# Altium footprint library eth_bridge_v2_pcb.PcbLib: 33 footprints (part 2 of 3)
Each footprint in its own frame and in the unit in brackets; x right, y up, seen from the top. Pads: shape width x height; smd on the part's side, far side on the other; paste and mask are expansions set on the pad; w line width, h text height; cw(c..) or ccw(c..) is an arc to the next point about the centre after c.
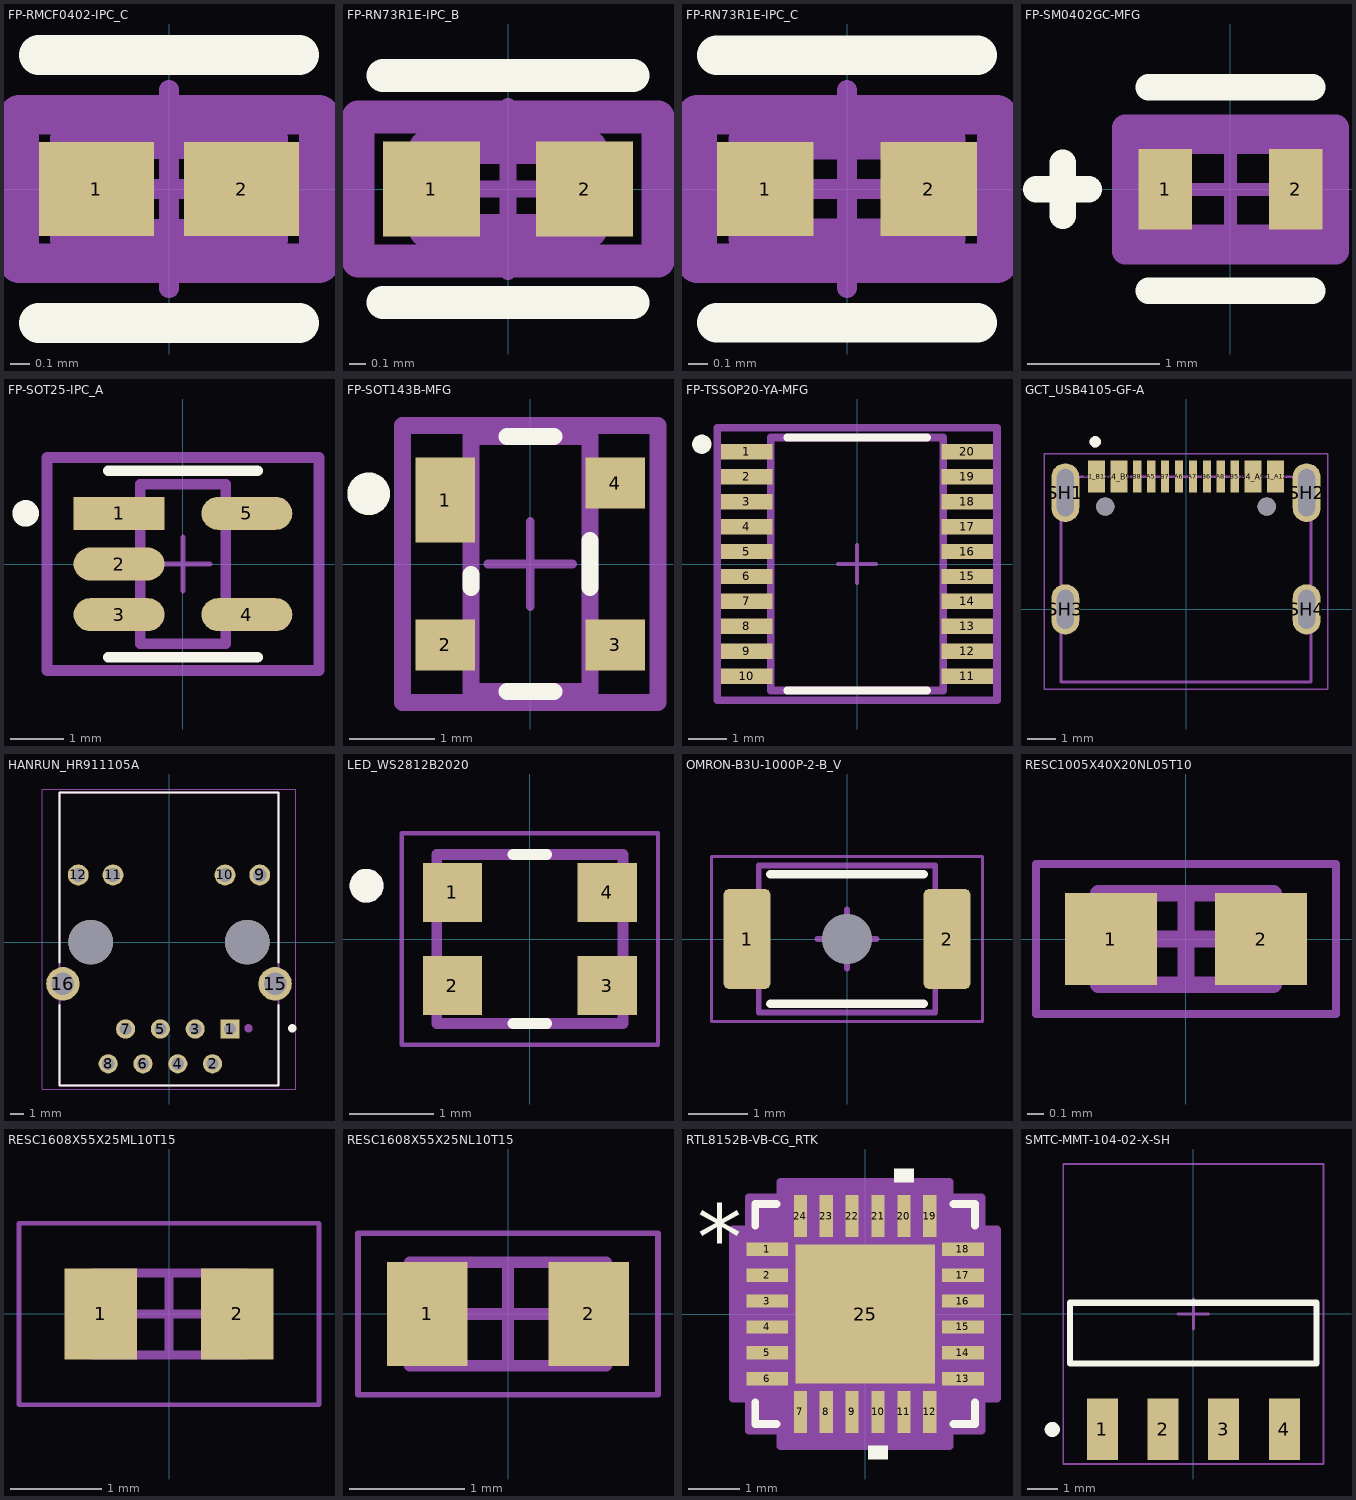
[diagram p1: the footprints below, top view; thin cyan lines are the x and y axes]

## FP-RMCF0402-IPC_C [mm]
pads (2):
  rect 0.581x0.472 smd paste+0 mask+0: 1(-0.366,0) 2(0.366,0)
Top Overlay:
  lines w0.2: -0.656,-0.675 0.656,-0.675 ; -0.656,0.675 0.656,0.675
Top Assembly:
  lines w0.2: -0.756,-0.375 0.756,-0.375 0.756,0.375 -0.756,0.375 -0.756,-0.375
  text ".Designator" at 0,0.188 h1
Top 3D Body:
  lines w0.2: -0.5,-0.25 0.5,-0.25 0.5,0.25 -0.5,0.25 -0.5,-0.25
Top Courtyard:
  lines w0.2: -0.756,-0.375 0.756,-0.375 0.756,0.375 -0.756,0.375 -0.756,-0.375
Top Component Center:
  lines w0.1: -0.5,0 0.5,0 ; 0,-0.5 0,0.5
3D body "Res_Stackpole_Electronics_RMCF0402FT1K00_eec.STEP": height 0.25, standoff 0, extent -0.756,-0.375 0.756,0.375

## FP-RN73R1E-IPC_B [mm]
pads (2):
  rect 0.588x0.572 smd paste+0 mask+0: 1(-0.464,0) 2(0.464,0)
Top Overlay:
  lines w0.2: -0.758,-0.686 0.758,-0.686 ; -0.758,0.686 0.758,0.686
Top Assembly:
  lines w0.2: -0.908,-0.436 0.908,-0.436 0.908,0.436 -0.908,0.436 -0.908,-0.436
  text ".Designator" at 0,0.188 h1
Top 3D Body:
  lines w0.2: -0.5,-0.25 0.5,-0.25 0.5,0.25 -0.5,0.25 -0.5,-0.25
Top Courtyard:
  lines w0.2: -0.908,-0.436 0.908,-0.436 0.908,0.436 -0.908,0.436 -0.908,-0.436
Top Component Center:
  lines w0.1: -0.5,0 0.5,0 ; 0,-0.5 0,0.5
3D body "Res_KOA_Speer_RN73R1ETTP2520D25_eec.STEP": height 0.25, standoff 0, extent -0.908,-0.436 0.908,0.436

## FP-RN73R1E-IPC_C [mm]
pads (2):
  rect 0.488x0.472 smd paste+0 mask+0: 1(-0.414,0) 2(0.414,0)
Top Overlay:
  lines w0.2: -0.658,-0.675 0.658,-0.675 ; -0.658,0.675 0.658,0.675
Top Assembly:
  lines w0.2: -0.758,-0.375 0.758,-0.375 0.758,0.375 -0.758,0.375 -0.758,-0.375
  text ".Designator" at 0,0.188 h1
Top 3D Body:
  lines w0.2: -0.5,-0.25 0.5,-0.25 0.5,0.25 -0.5,0.25 -0.5,-0.25
Top Courtyard:
  lines w0.2: -0.758,-0.375 0.758,-0.375 0.758,0.375 -0.758,0.375 -0.758,-0.375
Top Component Center:
  lines w0.1: -0.5,0 0.5,0 ; 0,-0.5 0,0.5
3D body "Res_KOA_Speer_RN73R1ETTP2520D25_eec.STEP": height 0.25, standoff 0, extent -0.758,-0.375 0.758,0.375

## FP-SM0402GC-MFG [mil]
pads (2):
  rect 16x24 smd paste+0 mask+0: 1(-19.5,0) 2(19.5,0)
Top Overlay:
  lines w7.87: -58.07,0 -42.32,0 ; -50.1,-7.83 -50.1,7.91 ; -24.5,-30.3 24.5,-30.3 ; -24.5,30.51 24.5,30.51
Top Assembly:
  lines w7.87: -31.44,-18.44 -31.44,18.44 31.44,18.44 31.44,-18.44 -31.44,-18.44
  text ".Designator" at 0,0 h39.37
Top 3D Body:
  lines w7.87: -24.5,-14.5 -24.5,14.5 24.5,14.5 24.5,-14.5 -24.5,-14.5
Top Courtyard:
  lines w7.87: -31.44,-18.44 -31.44,18.44 31.44,18.44 31.44,-18.44 -31.44,-18.44
Top Component Center:
  lines w3.94: -19.68,0 19.68,0 ; 0,-19.68 0,19.68
3D body "Diode_Bivar_SM0402GC_eec.STEP": height 10, standoff 0, extent -31.44,-18.44 31.44,18.44

## FP-SOT25-IPC_A [mm]
pads (5):
  rect 1.707x0.616 smd paste+0 mask+0: 1(-1.201,0.95)
  rrect100% 1.707x0.616 smd paste+0 mask+0: 2(-1.201,0) 3(-1.201,-0.95) 4(1.201,-0.95) 5(1.201,0.95)
Top Overlay:
  circle w0.25: c-2.954,0.95 r0.125
  lines w0.2: -1.4,-1.75 1.4,-1.75 ; -1.4,1.75 1.4,1.75
Top Assembly:
  lines w0.2: -2.554,-2 -2.554,2 2.554,2 2.554,-2 -2.554,-2
  text ".Designator" at 0,0 h1
Top 3D Body:
  lines w0.2: -0.8,-1.5 -0.8,1.5 0.8,1.5 0.8,-1.5 -0.8,-1.5
Top Courtyard:
  lines w0.2: -2.554,-2 -2.554,2 2.554,2 2.554,-2 -2.554,-2
Top Component Center:
  lines w0.1: -0.5,0 0.5,0 ; 0,-0.5 0,0.5
3D body "IC_Diodes_Inc_AP2127K-3_3TRG1_eec.STEP": height 0.25, standoff 0, extent -2.554,-2 2.554,2

## FP-SOT143B-MFG [mm]
pads (4):
  rect 0.7x1 smd paste-1000 mask+0: 1(-1,0.75)
  rect 0.7x0.6 smd paste-1000 mask+0: 2(-1,-0.95) 3(1,-0.95) 4(1,0.95)
Top Overlay:
  circle w0.25: c-1.9,0.825 r0.125
  lines w0.2: -0.7,-0.275 -0.7,-0.125 ; -0.275,-1.5 0.275,-1.5 ; -0.275,1.5 0.275,1.5 ; 0.7,-0.275 0.7,0.275
Top Paste:
  rectangle: -1.3,0.3 -0.7,1.2
  rectangle: -1.3,-1.2 -0.7,-0.7
  rectangle: 0.7,-1.2 1.3,-0.7
  rectangle: 0.7,0.7 1.3,1.2
Top Assembly:
  lines w0.2: -1.5,-1.625 1.5,-1.625 1.5,1.625 -1.5,1.625 -1.5,-1.625
  text ".Designator" at 0,0.188 h1
Top 3D Body:
  lines w0.2: -0.7,-1.5 0.7,-1.5 0.7,1.5 -0.7,1.5 -0.7,-1.5
Top Courtyard:
  lines w0.2: -1.5,-1.625 1.5,-1.625 1.5,1.625 -1.5,1.625 -1.5,-1.625
Top Component Center:
  lines w0.1: -0.5,0 0.5,0 ; 0,-0.5 0,0.5
3D body "Trans_Nexperia_BCM62B_215_eec.STEP": height 0.25, standoff 0, extent -1.5,-1.625 1.5,1.625

## FP-TSSOP20-YA-MFG [mm]
pads (20):
  rect 1.35x0.4 smd paste+0 mask+0: 1(-2.875,2.925) 2(-2.875,2.275) 3(-2.875,1.625) 4(-2.875,0.975) 5(-2.875,0.325) 6(-2.875,-0.325) 7(-2.875,-0.975) 8(-2.875,-1.625) 9(-2.875,-2.275) 10(-2.875,-2.925) 11(2.875,-2.925) 12(2.875,-2.275) 13(2.875,-1.625) 14(2.875,-0.975) 15(2.875,-0.325) 16(2.875,0.325) 17(2.875,0.975) 18(2.875,1.625) 19(2.875,2.275) 20(2.875,2.925)
Top Overlay:
  circle w0.25: c-4.05,3.125 r0.125
  lines w0.2: -1.825,-3.3 1.825,-3.3 ; -1.825,3.3 1.825,3.3
Top Assembly:
  lines w0.2: -3.65,-3.55 -3.65,3.55 3.65,3.55 3.65,-3.55 -3.65,-3.55
  text ".Designator" at 0,0.188 h1
Top 3D Body:
  lines w0.2: -2.25,-3.3 -2.25,3.3 2.25,3.3 2.25,-3.3 -2.25,-3.3
Top Courtyard:
  lines w0.2: -3.65,-3.55 -3.65,3.55 3.65,3.55 3.65,-3.55 -3.65,-3.55
Top Component Center:
  lines w0.1: -0.5,0 0.5,0 ; 0,-0.5 0,0.5
3D body "IC_STMicroelectronics_STM32L010F4P6_eec.STEP": height 0.25, standoff 0, extent -3.65,-3.55 3.65,3.55

## GCT_USB4105-GF-A [mm]
height 3.31
pads (18):
  rect 0.6x1.15 smd mask+0.05: A1_B12(-3.2,4.755) A4_B9(-2.4,4.755) B1_A12(3.2,4.755) B4_A9(2.4,4.755)
  rect 0.3x1.15 smd mask+0.05: A5(-1.25,4.755) A6(-0.25,4.755) A7(0.25,4.755) A8(1.25,4.755) B5(1.75,4.755) B6(0.75,4.755) B7(-0.75,4.755) B8(-1.75,4.755)
  oval 1x2.1 hole 0.6 slot 1.7 at 90 deg: SH1(-4.32,4.18) SH2(4.32,4.18)
  oval 1x1.8 hole 0.6 slot 1.4 at 90 deg: SH3(-4.32,0) SH4(4.32,0)
  round 0.65 hole 0.65 unplated: ""(-2.89,3.68) ""(2.89,3.68)
Top Overlay:
  circle w0.2: c-3.25,6 r0.1
Top 3D Body:
  circle w0.2: c-3.25,6 r0.1
  lines w0.1: -4.47,-2.6 4.47,-2.6 4.47,4.75 -4.47,4.75 -4.47,-2.6
Top Courtyard:
  lines w0.05: -5.07,-2.85 -5.07,5.58 5.07,5.58 5.07,-2.85 -5.07,-2.85
3D body "usb4105-xx-a-060.stp": height 3.26, standoff -0.63, extent -4.47,-2.667 4.47,5.033

## HANRUN_HR911105A [mm]
pads (16):
  rect 1.398x1.398 / inner round 1.398 / far side rect 1.398x1.398 hole 0.89: 1(4.45,-6.35)
  round 1.398 hole 0.89: 2(3.18,-8.89) 3(1.91,-6.35) 4(0.64,-8.89) 5(-0.63,-6.35) 6(-1.9,-8.89) 7(-3.17,-6.35) 8(-4.44,-8.89)
  round 1.53 hole 1.02: 9(6.625,4.9) 10(4.085,4.9) 11(-4.085,4.9) 12(-6.625,4.9)
  round 2.445 hole 1.63: 15(7.745,-3.05) 16(-7.745,-3.05)
  round 3.25 hole 3.25 unplated: ""(-5.715,0) ""(5.715,0)
Top Overlay:
  circle w0.3: c9,-6.3 r0.15
  lines w0.127: -8,-4.6 -8,-10.48 8,-10.48 8,-4.6 ; -8,-1.5 -8,10.92 8,10.92 8,-1.5
Top 3D Body:
  circle w0.3: c5.8,-6.3 r0.15
  lines w0.127: -8,-10.48 8,-10.48 8,10.92 -8,10.92 -8,-10.48
Top Courtyard:
  lines w0.05: -9.25,-10.73 9.25,-10.73 9.25,11.17 -9.25,11.17 -9.25,-10.73
3D body "step_temp.STEP": height 13.5, standoff -3.05, extent -8.02,-10.525 8.02,10.775

## LED_WS2812B2020 [mm]
height 0.84
pads (4):
  rect 0.7x0.7 smd: 1(-0.915,0.55) 2(-0.915,-0.55) 3(0.915,-0.55) 4(0.915,0.55)
Top Overlay:
  circle w0.2: c-1.931,0.63 r0.1
  lines w0.127: -0.2,-1 0.2,-1 ; -0.2,1 0.2,1
Top 3D Body:
  circle w0.2: c-1.931,0.63 r0.1
  lines w0.127: -1.1,-1 -1.1,1 1.1,1 1.1,-1 -1.1,-1
Top Courtyard:
  lines w0.05: -1.515,-1.25 1.515,-1.25 1.515,1.25 -1.515,1.25 -1.515,-1.25
3D body "step_temp.STEP": height 0.84, standoff 0, extent -1.1,-1 1.1,1

## OMRON-B3U-1000P-2-B_V [mm] "SMT, 2-Leads, Body 3x2.5mm"
height 1.75
pads (3):
  rrect25% 0.8x1.7 smd: 1(-1.7,0) 2(1.7,0)
  round 0 hole 0.85 unplated: H1(0,0)
Top Overlay:
  lines w0.15: -1.3,-1.1 1.3,-1.1 ; -1.3,1.1 1.3,1.1
Top Assembly:
  lines w0.1: -1.5,-1.25 -1.5,1.25 1.5,1.25 1.5,-1.25 -1.5,-1.25
Top Designator:
  text ".Designator" at -1.27,-0.127 h0.6
Top Courtyard:
  lines w0.05: -2.3,-1.4 -2.3,1.4 2.3,1.4 2.3,-1.4 -2.3,-1.4
  lines w0.1: -0.5,0 0.5,0 ; 0,-0.5 0,0.5
3D body "OMRON_B3U1000P.step": height 1.6, standoff 0, extent -2,-1.25 2,1.25

## RESC1005X40X20NL05T10 [mm] "Chip Resistor, 2-Leads, Body 1.00x0.50mm, IPC Medium Density"
height 0.4
pads (2):
  rect 0.55x0.55 smd: 1(-0.45,0) 2(0.45,0)
Top 3D Body:
  lines w0.1: -0.525,-0.275 -0.525,0.275 0.525,0.275 0.525,-0.275 -0.525,-0.275
Top Courtyard:
  lines w0.05: -0.9,-0.45 -0.9,0.45 0.9,0.45 0.9,-0.45 -0.9,-0.45
  lines w0.1: -0.275,0 0.275,0 ; 0,-0.275 0,0.275
3D body: height 0.4, standoff 0, extent -0.325,-0.275 0.325,0.275
3D body: height 0.4, standoff 0, extent -0.525,-0.275 -0.325,0.275
3D body: height 0.4, standoff 0, extent 0.325,-0.275 0.525,0.275

## RESC1608X55X25ML10T15 [mm] "Chip Resistor, 2-Leads, Body 1.60x0.80mm, IPC Low Density"
height 0.55
pads (2):
  rect 0.8x1 smd: 1(-0.75,0) 2(0.75,0)
Top 3D Body:
  lines w0.1: -0.85,-0.45 -0.85,0.45 0.85,0.45 0.85,-0.45 -0.85,-0.45
Top Courtyard:
  lines w0.05: -1.65,-1 -1.65,1 1.65,1 1.65,-1 -1.65,-1
  lines w0.1: -0.45,0 0.45,0 ; 0,-0.45 0,0.45
3D body: height 0.55, standoff 0, extent -0.6,-0.45 0.6,0.45
3D body: height 0.55, standoff 0, extent -0.85,-0.45 -0.6,0.45
3D body: height 0.55, standoff 0, extent 0.6,-0.45 0.85,0.45

## RESC1608X55X25NL10T15 [mm] "Chip Resistor, 2-Leads, Body 1.70x0.90mm, IPC Medium Density"
height 0.55
pads (2):
  rect 0.7x0.9 smd: 1(-0.7,0) 2(0.7,0)
Top 3D Body:
  lines w0.1: -0.85,-0.45 0.85,-0.45 0.85,0.45 -0.85,0.45 -0.85,-0.45
Top Courtyard:
  lines w0.05: -1.3,-0.7 1.3,-0.7 1.3,0.7 -1.3,0.7 -1.3,-0.7
  lines w0.1: -0.45,0 0.45,0 ; 0,-0.45 0,0.45
3D body: height 0.55, standoff 0, extent 0.6,-0.45 0.85,0.45
3D body: height 0.55, standoff 0, extent -0.85,-0.45 -0.6,0.45
3D body: height 0.55, standoff 0, extent -0.6,-0.45 0.6,0.45

## RTL8152B-VB-CG_RTK [mm]
pads (25):
  rect 0.808x0.255 smd paste+0 mask+0: 1(-1.89,1.25) 2(-1.89,0.75) 3(-1.89,0.25) 4(-1.89,-0.25) 5(-1.89,-0.75) 6(-1.89,-1.25) 13(1.89,-1.25) 14(1.89,-0.75) 15(1.89,-0.25) 16(1.89,0.25) 17(1.89,0.75) 18(1.89,1.25)
  rect 0.255x0.808 smd paste+0 mask+0: 7(-1.25,-1.89) 8(-0.75,-1.89) 9(-0.25,-1.89) 10(0.25,-1.89) 11(0.75,-1.89) 12(1.25,-1.89) 19(1.25,1.89) 20(0.75,1.89) 21(0.25,1.89) 22(-0.25,1.89) 23(-0.75,1.89) 24(-1.25,1.89)
  rect 2.692x2.692 smd paste-1.346 mask+0: 25(0,0)
Top Overlay:
  region: 0.44,-2.548 0.059,-2.548 0.059,-2.802 0.44,-2.802
  region: 0.941,2.548 0.56,2.548 0.56,2.802 0.941,2.802
  lines w0.152: -2.121,-1.71 -2.121,-2.121 -1.71,-2.121 ; -2.121,1.71 -2.121,2.121 -1.71,2.121 ; 1.71,-2.121 2.121,-2.121 2.121,-1.71 ; 1.71,2.121 2.121,2.121 2.121,1.71
  text "*" at -3.246,0.865 h1.27
  text ".Designator" at -3.492,-0.635 h1.27
Top Paste:
  region: -0.1,1.246 -1.246,1.246 -1.246,0.1 -0.1,0.1
  region: -0.1,-0.1 -1.246,-0.1 -1.246,-1.246 -0.1,-1.246
  region: 1.246,1.246 0.1,1.246 0.1,0.1 1.246,0.1
  region: 1.246,-0.1 0.1,-0.1 0.1,-1.246 1.246,-1.246
Top 3D Body:
  lines w0.025: -1.994,0.724 -0.724,1.994 ; -1.994,-1.994 1.994,-1.994 1.994,1.994 -1.994,1.994 -1.994,-1.994 ; -1.994,-1.402 -1.994,-1.098 -1.994,-1.402 ; -1.994,-0.902 -1.994,-0.598 -1.994,-0.902 ; -1.994,-0.402 -1.994,-0.098 -1.994,-0.402 ; -1.994,0.098 -1.994,0.402 -1.994,0.098 ; -1.994,0.598 -1.994,0.902 -1.994,0.598 ; -1.994,1.098 -1.994,1.402 -1.994,1.098 ; -1.402,-1.994 -1.098,-1.994 -1.402,-1.994 ; -1.402,1.994 -1.098,1.994 -1.402,1.994 ; -0.902,-1.994 -0.598,-1.994 -0.902,-1.994 ; -0.902,1.994 -0.598,1.994 -0.902,1.994 ; -0.402,-1.994 -0.098,-1.994 -0.402,-1.994 ; -0.402,1.994 -0.098,1.994 -0.402,1.994 ; 0.098,-1.994 0.402,-1.994 0.098,-1.994 ; 0.098,1.994 0.402,1.994 0.098,1.994 ; 0.598,-1.994 0.902,-1.994 0.598,-1.994 ; 0.598,1.994 0.902,1.994 0.598,1.994 ; 1.098,-1.994 1.402,-1.994 1.098,-1.994 ; 1.098,1.994 1.402,1.994 1.098,1.994 ; 1.994,-1.402 1.994,-1.098 1.994,-1.402 ; 1.994,-0.902 1.994,-0.598 1.994,-0.902 ; 1.994,-0.402 1.994,-0.098 1.994,-0.402 ; 1.994,0.098 1.994,0.402 1.994,0.098 ; 1.994,0.598 1.994,0.902 1.994,0.598 ; 1.994,1.098 1.994,1.402 1.994,1.098
  text ".Designator" at -3.492,-0.635 h1.27
  text "*" at -1.803,0.865 h1.27
Top Courtyard:
  region: -1.631,-2.248 -2.248,-2.248 -2.248,-1.631 -2.548,-1.631 -2.548,1.631 -2.248,1.631 -2.248,2.248 -1.631,2.248 -1.631,2.548 1.631,2.548 1.631,2.248 2.248,2.248 2.248,1.631 2.548,1.631 2.548,-1.631 2.248,-1.631 2.248,-2.248 1.631,-2.248 1.631,-2.548 -1.631,-2.548
  lines w0.152: -2.548,-1.631 -2.248,-1.631 -2.248,-2.248 -1.631,-2.248 -1.631,-2.548 1.631,-2.548 1.631,-2.248 2.248,-2.248 2.248,-1.631 2.548,-1.631 2.548,1.631 2.248,1.631 2.248,2.248 1.631,2.248 1.631,2.548 -1.631,2.548 -1.631,2.248 -2.248,2.248 -2.248,1.631 -2.548,1.631 -2.548,-1.631
3D body "RTL8152B-VB-CG_RTK.step": height 0.89, standoff 0, extent -1.994,-1.994 1.994,1.994

## SMTC-MMT-104-02-X-SH [mm] "Terminal Surface Mount Strip ASSEM, 1x4 Pins, Horizontal, 2mm Pitch, Male"
height 2
pads (4):
  rect 1.02x2.03 smd: 1(-3,-3.805) 2(-1,-3.805) 3(1,-3.805) 4(3,-3.805)
Top Overlay:
  circle w0.25: c-4.65,-3.805 r0.125
  lines w0.2: -4.065,-1.631 4.065,-1.631 4.065,0.37 -4.065,0.37 -4.065,-1.631
Top 3D Body:
  lines w0.1: -4.065,-1.631 4.065,-1.631 4.065,0.37 -4.065,0.37 -4.065,-1.631
Top Courtyard:
  lines w0.05: -4.29,-4.945 -4.29,4.945 4.29,4.945 4.29,-4.945 -4.29,-4.945
  lines w0.1: -0.5,0 0.5,0 ; 0,-0.5 0,0.5
3D body "MMT-104-02-X-SH.step": height 1.92, standoff -0.08, extent -4,-4.419 4,4.82